# Altium schematic symbol library 74S174.SchLib: 1 symbol
Pins are listed as number, name and electrical type; pins without a type are passive.

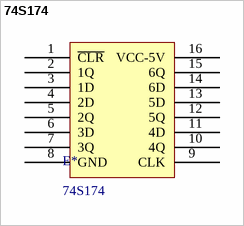
[diagram p0: symbol 74S174]

## 74S174
designator E*
Supplier 1: Rochester Electronics; Supplier Part Number 1: SN74S174N
footprint DIP16-300
pins: 1 ~{CLR}, 2 1Q, 3 1D, 4 2D, 5 2Q, 6 3D, 7 3Q, 8 GND, 9 CLK, 10 4Q, 11 4D, 12 5Q, 13 5D, 14 6D, 15 6Q, 16 VCC-5V